# EAGLE library part AD5940BCBZ-RL (library AD5940BCBZ-RL)
1 Channel AFE 16 Bit 56-WLCSP (3.56x4.16) Source: Datasheet <https://www.analog.com/media/en/technical-documentation/data-sheets/AD5940-5941.pdf>
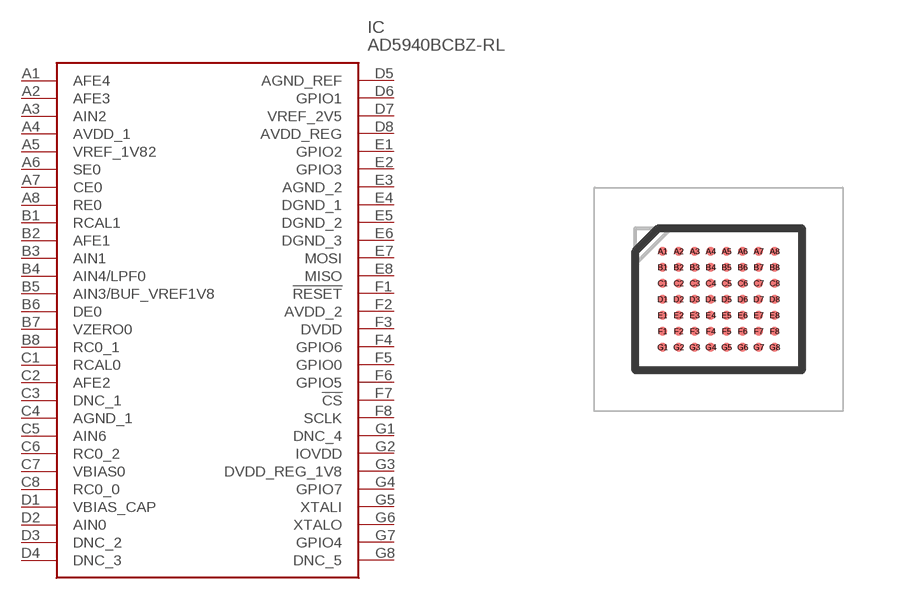
[diagram p0: symbol with the pads of BGA56C40P8X7_416X356X55; footprint BGA56C40P8X7_416X356X55]

Designator prefix IC

## AD5940BCBZ-RL (Arrow_Part_Number: AD5940BCBZ-RL; Arrow_Price-Stock: https://www.arrow.com/en/products/ad5940bcbz-rl/analog-devices?utm_currency=USD&region=nac; Description: 1 Channel AFE 16 Bit 56-WLCSP (3.56x4.16); Height: 0.55mm; Manufacturer_Name: Analog Devices; Manufacturer_Part_Number: AD5940BCBZ-RL; Mouser_Part_Number: 584-AD5940BCBZ-RL; Mouser_Price-Stock: https://www.mouser.co.uk/ProductDetail/Analog-Devices/AD5940BCBZ-RL?qs=MLItCLRbWsy43l4k5gcZVQ%3D%3D)  [BGA56C40P8X7_416X356X55]
A1  AFE4
A2  AFE3
A3  AIN2
A4  AVDD_1
A5  VREF_1V82
A6  SE0
A7  CE0
A8  RE0
B1  RCAL1
B2  AFE1
B3  AIN1
B4  AIN4/LPF0
B5  AIN3/BUF_VREF1V8
B6  DE0
B7  VZERO0
B8  RC0_1
C1  RCAL0
C2  AFE2
C3  DNC_1
C4  AGND_1
C5  AIN6
C6  RC0_2
C7  VBIAS0
C8  RC0_0
D1  VBIAS_CAP
D2  AIN0
D3  DNC_2
D4  DNC_3
D5  AGND_REF
D6  GPIO1
D7  VREF_2V5
D8  AVDD_REG
E1  GPIO2
E2  GPIO3
E3  AGND_2
E4  DGND_1
E5  DGND_2
E6  DGND_3
E7  MOSI
E8  MISO
F1  !RESET
F2  AVDD_2
F3  DVDD
F4  GPIO6
F5  GPIO0
F6  GPIO5
F7  !CS
F8  SCLK
G1  DNC_4
G2  IOVDD
G3  DVDD_REG_1V8
G4  GPIO7
G5  XTALI
G6  XTALO
G7  GPIO4
G8  DNC_5

## Footprint BGA56C40P8X7_416X356X55 (pad centres in mm)
CB-56-3
smd 0.214 x 0.214: A1 -1.4,1.2; A2 -1,1.2; A3 -0.6,1.2; A4 -0.2,1.2; A5 0.2,1.2; A6 0.6,1.2; A7 1,1.2; A8 1.4,1.2; B1 -1.4,0.8; B2 -1,0.8; B3 -0.6,0.8; B4 -0.2,0.8; B5 0.2,0.8; B6 0.6,0.8; B7 1,0.8; B8 1.4,0.8; C1 -1.4,0.4; C2 -1,0.4; C3 -0.6,0.4; C4 -0.2,0.4; C5 0.2,0.4; C6 0.6,0.4; C7 1,0.4; C8 1.4,0.4; D1 -1.4,0; D2 -1,0; D3 -0.6,0; D4 -0.2,0; D5 0.2,0; D6 0.6,0; D7 1,0; D8 1.4,0; E1 -1.4,-0.4; E2 -1,-0.4; E3 -0.6,-0.4; E4 -0.2,-0.4; E5 0.2,-0.4; E6 0.6,-0.4; E7 1,-0.4; E8 1.4,-0.4; F1 -1.4,-0.8; F2 -1,-0.8; F3 -0.6,-0.8; F4 -0.2,-0.8; F5 0.2,-0.8; F6 0.6,-0.8; F7 1,-0.8; F8 1.4,-0.8; G1 -1.4,-1.2; G2 -1,-1.2; G3 -0.6,-1.2; G4 -0.2,-1.2; G5 0.2,-1.2; G6 0.6,-1.2; G7 1,-1.2; G8 1.4,-1.2